# Altium footprint library OSTTE030104.PcbLib: 1 footprints
Each footprint in its own frame and in the unit in brackets; x right, y up, seen from the top. Pads: shape width x height; smd on the part's side, far side on the other; paste and mask are expansions set on the pad; w line width, h text height; cw(c..) or ccw(c..) is an arc to the next point about the centre after c.
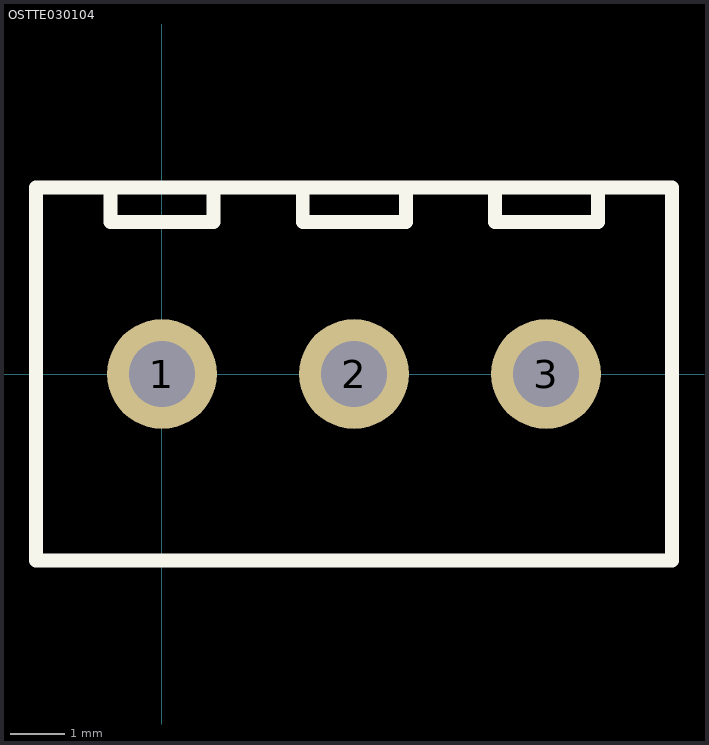
[diagram p0: the footprint, top view; thin cyan lines are the x and y axes]

## OSTTE030104 [mm] "3-pin screw terminal block 3.5mm pitch"
pads (3):
  round 2 hole 1.2: 1(0,0) 2(3.5,0) 3(7,0)
Top Overlay:
  lines w0.254: -0.94,3.378 -0.94,2.769 0.94,2.769 0.94,3.378 ; 2.565,3.378 2.565,2.769 4.445,2.769 4.445,3.378 ; 6.071,3.378 6.071,2.769 7.95,2.769 7.95,3.378 ; -2.3,-3.4 -2.3,3.4 9.3,3.4 9.3,-3.4 -2.3,-3.4